# EAGLE library part LT4365 (library Eagle Library)
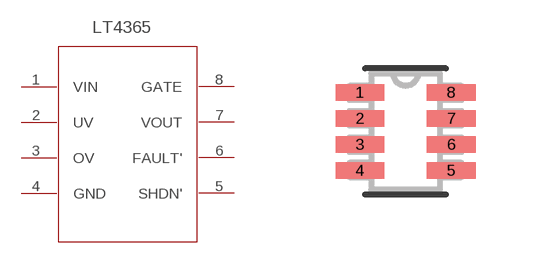
[diagram p0: symbol with the pads of TSOT-23_TS8; footprint TSOT-23_TS8]

Designator prefix -

## LT4365  [TSOT-23_TS8]
1  VIN
2  UV
3  OV
4  GND
5  SHDN'
6  FAULT'
7  VOUT
8  GATE

## Footprint TSOT-23_TS8 (pad centres in mm)
smd 1.219 x 0.406: 1 -1.143,0.975; 2 -1.143,0.325; 3 -1.143,-0.325; 4 -1.143,-0.975; 5 1.143,-0.975; 6 1.143,-0.325; 7 1.143,0.325; 8 1.143,0.975